# EAGLE library part LM5112MY (library texas-instruments)
Tiny 7A MOSFET Gate Driver
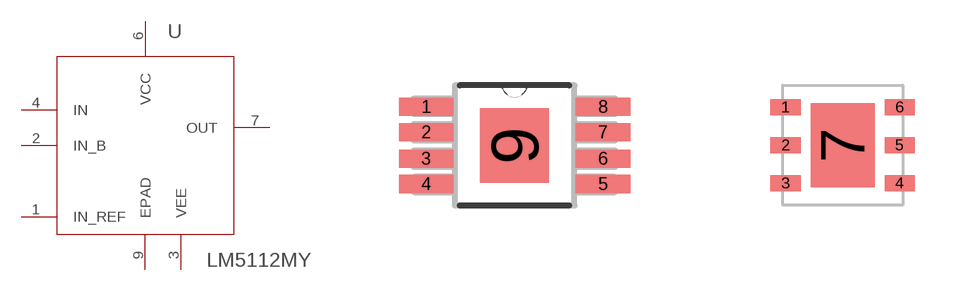
[diagram p25: symbol with the pads of MSOP08-POWERPAD1; footprints MSOP08-POWERPAD1, WSON-6]

Designator prefix U

## LM5112MYLM5112MY (DIGIKEY: LM5112MY/NOPBCT-ND; P1I: o)  [MSOP08-POWERPAD1]
1  IN_REF  in
2  IN_B  in
3  VEE  pwr
4  IN  in
6  VCC  pwr
7  OUT  out
9  EPAD  pas

## LM5112MYLM5112SD (DIGIKEY: LM5112SD/NOPBCT-ND; P1I: o)  [WSON-6]
1  IN  in
2  VEE  pwr
3  VCC  pwr
4  OUT  out
5  IN_REF  in
6  IN_B  in
7  EPAD  pas

## Footprint MSOP08-POWERPAD1 (pad centres in mm)
smd 1.372 x 0.457: 1 -2.21,0.965; 2 -2.21,0.33; 3 -2.21,-0.33; 4 -2.21,-0.965; 5 2.21,-0.965; 6 2.21,-0.33; 7 2.21,0.33; 8 2.21,0.965
smd 1.727 x 1.854: 9 0,0

## Footprint WSON-6 (pad centres in mm)
DCB Package 6-Lead Plastic DFN (2mm × 3mm) (Reference LTC DWG # 05-08-1715 Rev A)
smd 0.75 x 0.4: 1 -1.425,0.95; 2 -1.425,0; 3 -1.425,-0.95; 4 1.425,-0.95; 5 1.425,0; 6 1.425,0.95
smd 1.6 x 2.1: 7 0,0